# EAGLE library part HEADER-3X2P-F (library Connectors)
Double-row, 6-pin Receptacle Header (Female) Right Angle, 2.54 mm (0.10 in) row pitch, 2.54 mm (0.10 in) col pitch, 8.04 mm insulator length, 8.02 X 8.04 X 5.00 mm body Double-row (2X3), 6-pin Receptacle Header (Female) Right Angle package with 2.54 mm (0.10 in) row pitch, 2.54 mm (0.10 in) col pitch, 0.64 mm lead width, 3.00 mm tail length and 8.04 mm insulator length with body size 8.02 X 8.04 X 5.00 mm, pin pattern - clockwise from top left
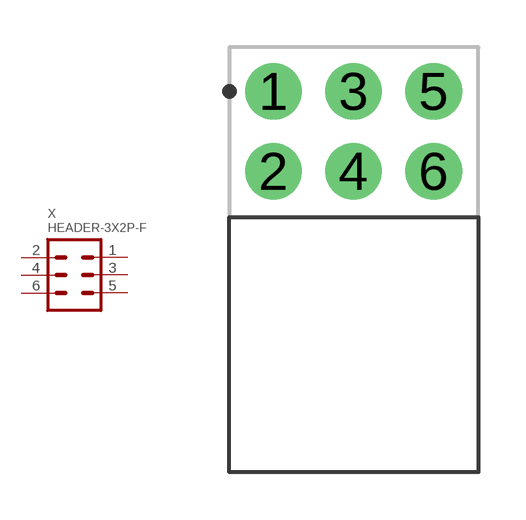
[diagram p2: symbol with the pads of HDRRAR6W64P254_2X3_802X804X500B; footprint HDRRAR6W64P254_2X3_802X804X500B]

Designator prefix X

## HEADER-3X2P-F (DESCRIPTION: value; LINK: value; MANUFACTURER: value; PACKAGE: value; PART_NUMBER: value)  [HDRRAR6W64P254_2X3_802X804X500B]
1  1
2  2
3  3
4  4
5  5
6  6

## Footprint HDRRAR6W64P254_2X3_802X804X500B (pad centres in mm)
Double-row, 6-pin Receptacle Header (Female) Right Angle, 2.54 mm (0.10 in) row pitch, 2.54 mm (0.10 in) col pitch, 8.04 mm insulator length, 8.02 X 8.04 X 5.00 mm body Double-row (2X3), 6-pin Receptacle Header (Female) Right Angle package with 2.54 mm (0.10 in) row pitch, 2.54 mm (0.10 in) col pitch, 0.64 mm lead width, 3.00 mm tail length and 8.04 mm insulator length with body size 8.02 X 8.04 X 5.00 mm, pin pattern - clockwise from top left
drill 1 pad 1.8: 1 0,0; 2 0,-2.54; 3 2.54,0; 4 2.54,-2.54; 5 5.08,0; 6 5.08,-2.54